# Altium schematic symbol library SCH - CONNECTORS - AMPHENOL - BNC.SCHLIB: 1 symbol
Pins are listed as number, name and electrical type; pins without a type are passive.

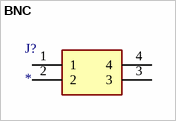
[diagram p0: symbol BNC]

## BNC
designator J?
Connector; Manufacturer_Name: Amphenol; Manufacturer_Part_Number: 031-5431-10RFX; Datasheet Link: https://www.amphenolrf.com/media/downloads/7797/C31-5431-10rfx.pdf; Height: 15.6mm; Mouser Part Number: 523-31-5431-10RFX; Mouser Price/Stock: https://www.mouser.co.uk/ProductDetail/Amphenol-RF/031-5431-10RFX?qs=py4qCovljJ8doXL0muNs1w%3D%3D; Arrow Part Number: 031-5431-10RFX; Arrow Price/Stock: https://www.arrow.com/en/products/031-5431-10rfx/amphenol-rf
footprint 031543110RFX
pins: 1, 2, 3, 4